# Altium schematic symbol library MAX14591ETA+.SchLib: 1 symbol
Pins are listed as number, name and electrical type; pins without a type are passive.

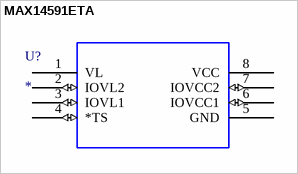
[diagram p0: symbol MAX14591ETA]

## MAX14591ETA
designator U?
MP: MAX14591ETA; MF: {'manufacturer': u'Maxim Integrated'}; Value: *; Package: None; Price: None; Availability: Unavailable
footprint 21-0487A
pins: 1 VL (power), 2 IOVL2 (io), 3 IOVL1 (io), 4 *TS (io), 5 GND (power), 6 IOVCC1 (io), 7 IOVCC2 (io), 8 VCC (power)